# Altium footprint library MEGA_IC.PcbLib: 1 footprints
Each footprint in its own frame and in the unit in brackets; x right, y up, seen from the top. Pads: shape width x height; smd on the part's side, far side on the other; paste and mask are expansions set on the pad; w line width, h text height; cw(c..) or ccw(c..) is an arc to the next point about the centre after c.
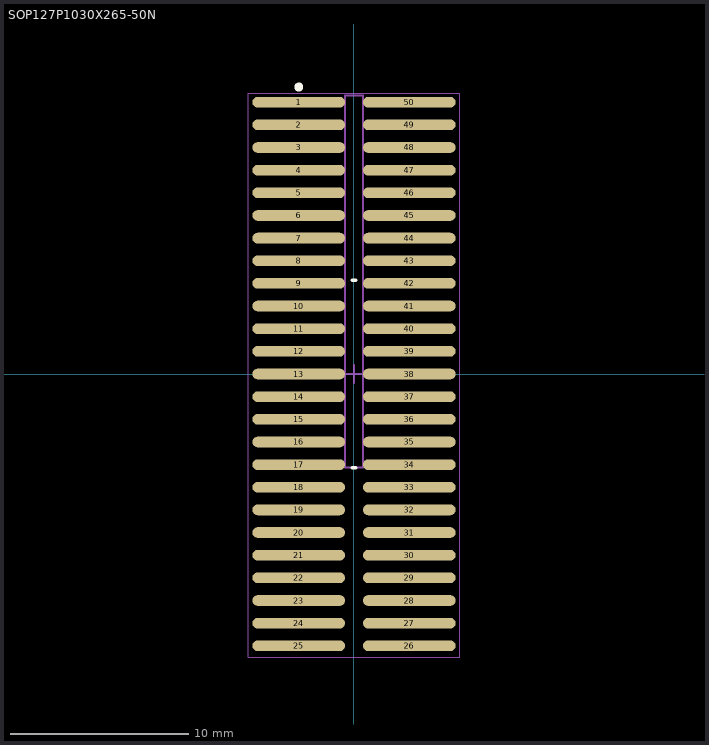
[diagram p0: the footprint, top view; thin cyan lines are the x and y axes]

## SOP127P1030X265-50N [mm] "SOP, 50-Leads, Body 10.30x1.00mm, Pitch 1.27mm, IPC Medium Density"
height 2.65
pads (50):
  oval 5.2x0.6 smd: 1(-3.1,15.24) 2(-3.1,13.97) 3(-3.1,12.7) 4(-3.1,11.43) 5(-3.1,10.16) 6(-3.1,8.89) 7(-3.1,7.62) 8(-3.1,6.35) 9(-3.1,5.08) 10(-3.1,3.81) 11(-3.1,2.54) 12(-3.1,1.27) 13(-3.1,0) 14(-3.1,-1.27) 15(-3.1,-2.54) 16(-3.1,-3.81) 17(-3.1,-5.08) 18(-3.1,-6.35) 19(-3.1,-7.62) 20(-3.1,-8.89) 21(-3.1,-10.16) 22(-3.1,-11.43) 23(-3.1,-12.7) 24(-3.1,-13.97) 25(-3.1,-15.24) 26(3.1,-15.24) 27(3.1,-13.97) 28(3.1,-12.7) 29(3.1,-11.43) 30(3.1,-10.16) 31(3.1,-8.89) 32(3.1,-7.62) 33(3.1,-6.35) 34(3.1,-5.08) 35(3.1,-3.81) 36(3.1,-2.54) 37(3.1,-1.27) 38(3.1,0) 39(3.1,1.27) 40(3.1,2.54) 41(3.1,3.81) 42(3.1,5.08) 43(3.1,6.35) 44(3.1,7.62) 45(3.1,8.89) 46(3.1,10.16) 47(3.1,11.43) 48(3.1,12.7) 49(3.1,13.97) 50(3.1,15.24)
Top Overlay:
  circle w0.25: c-3.1,16.09 r0.125
  lines w0.2: -0.1,-5.25 0.1,-5.25 ; -0.1,5.25 0.1,5.25
Mechanical 13:
  lines w0.1: -0.5,-5.25 0.5,-5.25 0.5,15.621 -0.5,15.621 -0.5,-5.25
Mechanical 15:
  lines w0.05: -5.925,-15.875 5.925,-15.875 5.925,15.748 -5.925,15.748 -5.925,-15.875
  lines w0.1: -0.5,0 0.5,0 ; 0,-0.5 0,0.5
3D body: height 2.65, standoff 0.1, extent -0.5,-15.748 0.5,15.621